# Altium footprint library Z 自恢复保险丝.PcbLib: 20 footprints (part 2 of 2)
Each footprint in its own frame and in the unit in brackets; x right, y up, seen from the top. Pads: shape width x height; smd on the part's side, far side on the other; paste and mask are expansions set on the pad; w line width, h text height; cw(c..) or ccw(c..) is an arc to the next point about the centre after c.
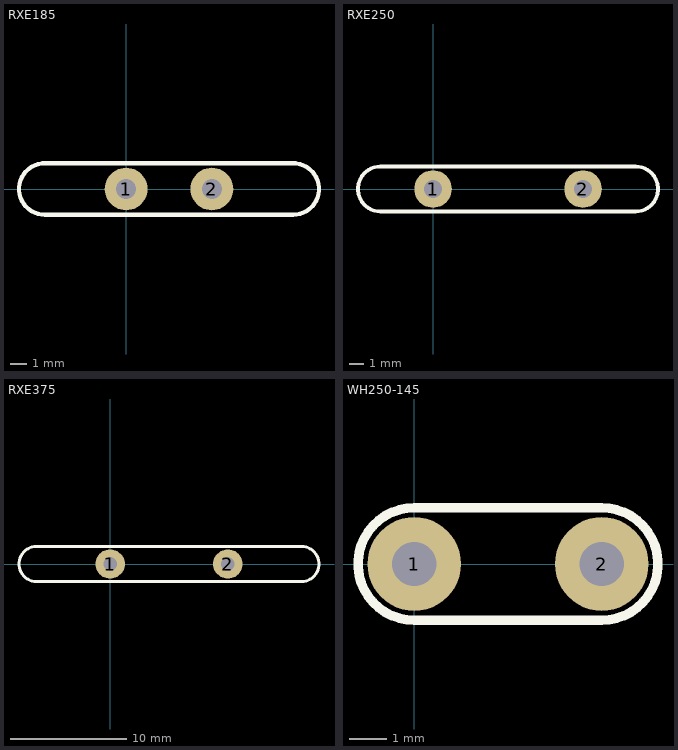
[diagram p1: the footprints below, top view; thin cyan lines are the x and y axes]

## RXE185 [mil] "直流1.85A-自恢复保险丝"
pads (2):
  round 100 hole 47: 1(0,0) 2(200,0)
Top Overlay:
  lines w10: -195,60 395,60 ; -190,60 ccw(c-190,0) -190,-60 390,-60 ccw(c390,0) 390,60

## RXE250 [mil] "直流2.5A-自恢复保险丝"
height 866.14
pads (2):
  round 100 hole 47: 1(0,0) 2(400,0)
Top Overlay:
  lines w10: -140,-60 cw(c-140,0) -140,60 540,60 cw(c540,0) 540,-60 -140,-60

## RXE375 [mil] "直流3.75A-自恢复保险丝"
height 1181.1
pads (2):
  round 100 hole 47: 1(0,0) 2(400,0)
Top Overlay:
  lines w10: -250,-60 cw(c-250,0) -250,60 650,60 cw(c650,0) 650,-60 -250,-60

## WH250-145 [mil] "直流250V/1.45A-自恢复保险丝"
height 393.7
pads (2):
  round 100 hole 47: 1(0,0) 2(200,0)
Top Overlay:
  lines w10: 199,-60 0,-60 cw(c0,0) 0,60 199,60 ; 200,-60 ccw(c200,0) 200,60